# Altium schematic symbol library Male Header.SchLib: 63 symbols
Pins are listed as number, name and electrical type; pins without a type are passive.

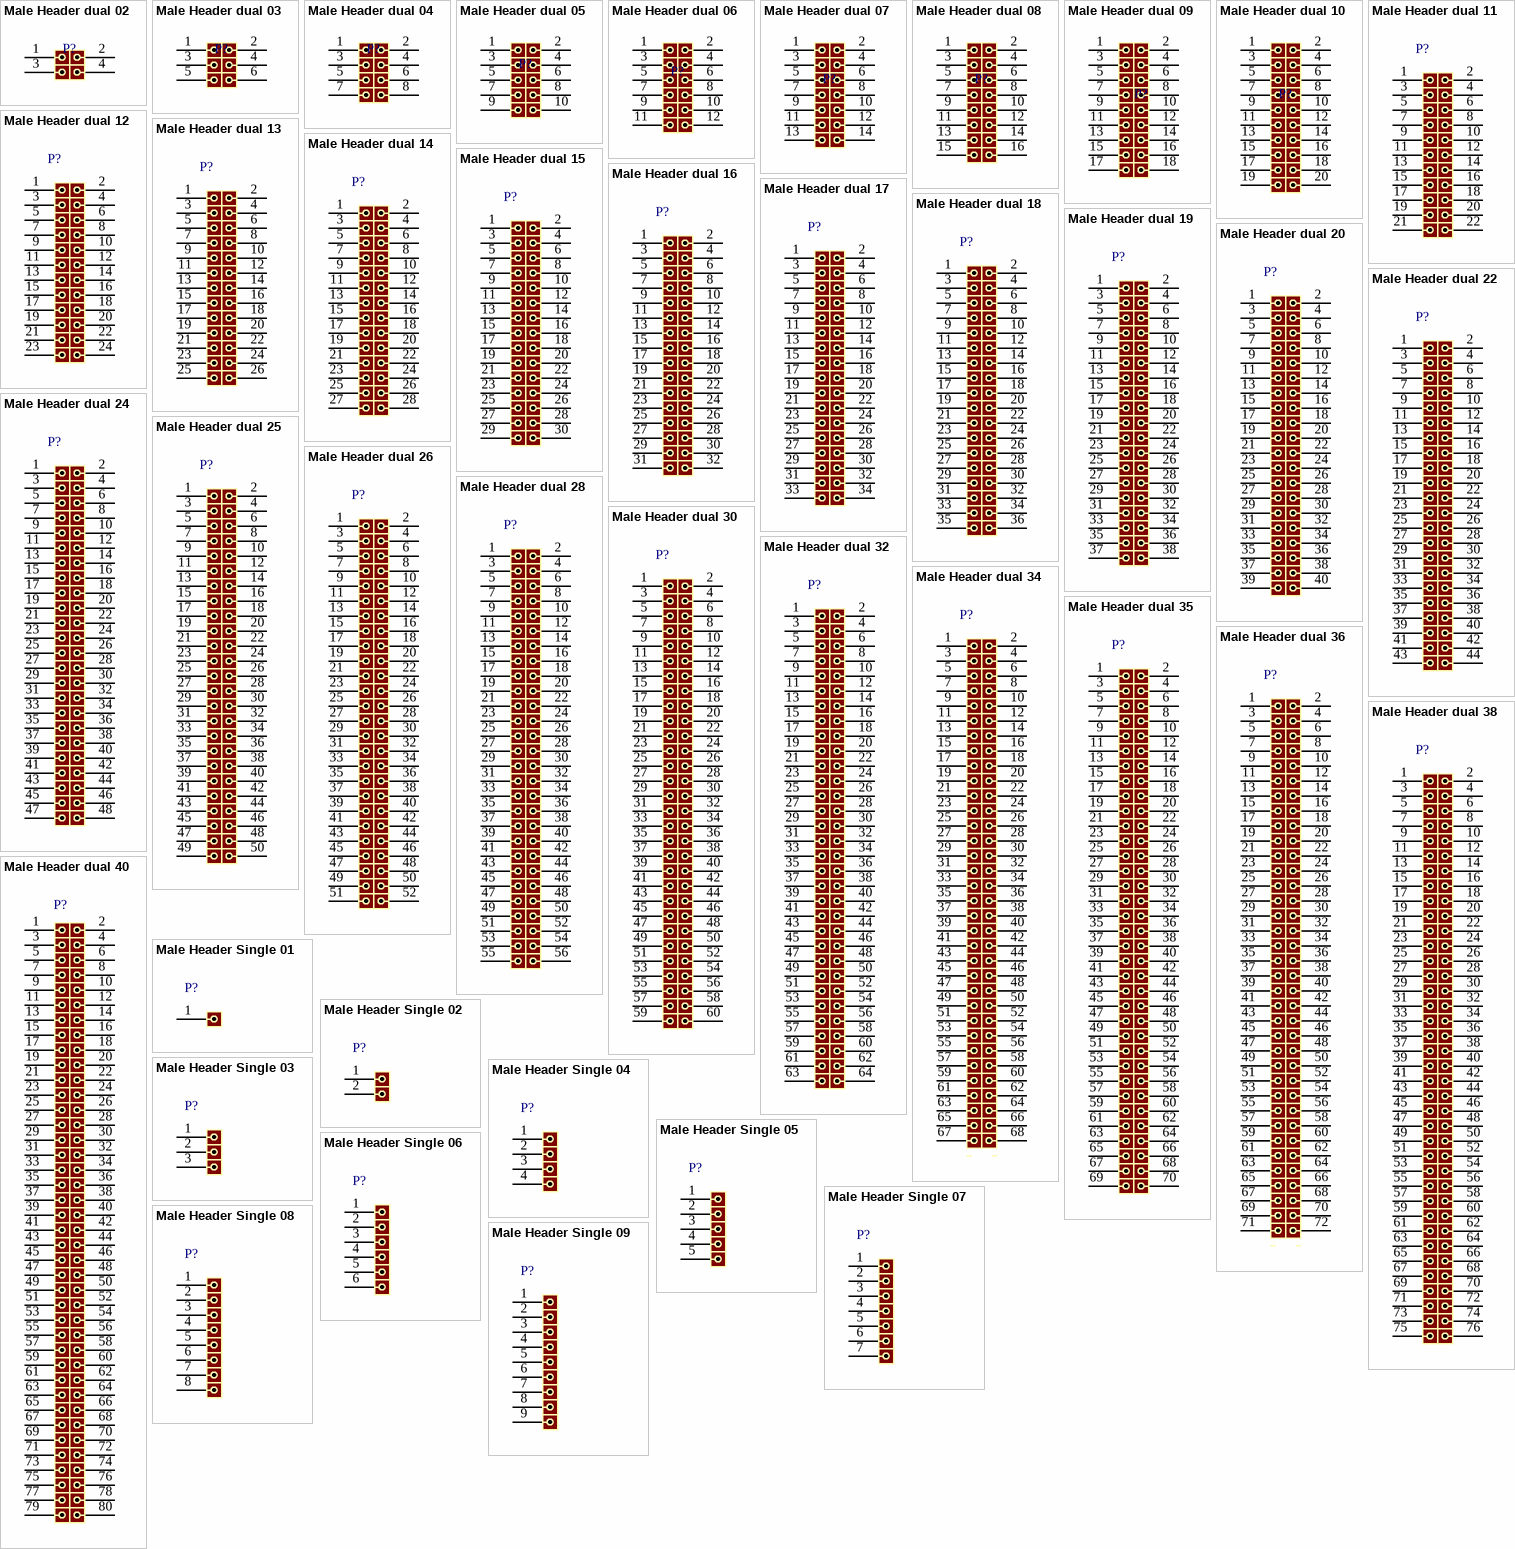
[diagram p0: symbols Male Header dual 02 to Male Header Single 09]

## Male Header dual 02
designator P?
Male, pitch: 2.54mm; DatasheetVersion: 2022
footprint MHDR2X02-254P (Male Header 2X02 with 2.54 mm Pitch)
footprint HDR 2X2 (Connector; Header; 2x2 Position)
pins: 1, 2, 3, 4
1 alternate drawing of the same symbol

## Male Header dual 03
designator P?
Male, pitch: 2.54mm; DatasheetVersion: 2022
footprint MHDR2X03-254P - E (Male Header 2X03 with 2.54 mm Pitch)
footprint MHDR2X03-254P (Male Header 2X03 with 2.54 mm Pitch)
footprint HDR 2X3 (Connector; Header; 2x3 Position)
pins: 1, 2, 3, 4, 5, 6
1 alternate drawing of the same symbol

## Male Header dual 04
designator P?
Male, pitch: 2.54mm; DatasheetVersion: 2022
footprint MHDR2X04-254P (Male Header 2X04 with 2.54 mm Pitch)
footprint HDR 2X4 (Connector; Header; 2x4 Position)
pins: 1, 2, 3, 4, 5, 6, 7, 8
1 alternate drawing of the same symbol

## Male Header dual 05
designator P?
Male, pitch: 2.54mm; DatasheetVersion: 2022
footprint MHDR2X05-254P (Male Header 2X05 with 2.54 mm Pitch)
footprint MHDR2X05-254P - E (Male Header 2X05 with 2.54 mm Pitch)
footprint HDR 2X5 (Connector; Header; 2x5 Position)
pins: 1, 2, 3, 4, 5, 6, 7, 8, 9, 10
1 alternate drawing of the same symbol

## Male Header dual 06
designator P?
Male, pitch: 2.54mm; DatasheetVersion: 2022
footprint MHDR2X06-254P (Male Header 2X06 with 2.54 mm Pitch)
footprint HDR 2X6 (Connector; Header; 2x6 Position)
pins: 1, 2, 3, 4, 5, 6, 7, 8, 9, 10, 11, 12
1 alternate drawing of the same symbol

## Male Header dual 07
designator P?
Male, pitch: 2.54mm; DatasheetVersion: 2022
footprint MHDR2X07-254P (Male Header 2X07 with 2.54 mm Pitch)
footprint HDR 2X7 (Connector; Header; 2x7 Position)
pins: 1, 2, 3, 4, 5, 6, 7, 8, 9, 10, 11, 12, 13, 14
1 alternate drawing of the same symbol

## Male Header dual 08
designator P?
Male, pitch: 2.54mm; DatasheetVersion: 2022
footprint MHDR2X08-254P (Male Header 2X08 with 2.54 mm Pitch)
footprint HDR 2X8 (Connector; Header; 2x8 Position)
pins: 1, 2, 3, 4, 5, 6, 7, 8, 9, 10, 11, 12, 13, 14, 15, 16
1 alternate drawing of the same symbol

## Male Header dual 09
designator P?
Male, pitch: 2.54mm; DatasheetVersion: 2022
footprint MHDR2X09-254P (Male Header 2X09 with 2.54 mm Pitch)
footprint HDR 2X9 (Connector; Header; 2x9 Position)
pins: 1, 2, 3, 4, 5, 6, 7, 8, 9, 10, 11, 12, 13, 14, 15, 16, 17, 18
1 alternate drawing of the same symbol

## Male Header dual 10
designator P?
Male, pitch: 2.54mm; DatasheetVersion: 2022
footprint MHDR2X10-254P (Male Header 2X10 with 2.54 mm Pitch)
footprint HDR 2X10 (Connector; Header; 2x10 Position)
pins: 1, 2, 3, 4, 5, 6, 7, 8, 9, 10, 11, 12, 13, 14, 15, 16, 17, 18, 19, 20
1 alternate drawing of the same symbol

## Male Header dual 11
designator P?
Male, pitch: 2.54mm; DatasheetVersion: 2022
footprint MHDR2X11-254P (Male Header 2X11 with 2.54 mm Pitch)
footprint HDR 2X11 (Connector; Header; 2x11 Position)
pins: 1, 2, 3, 4, 5, 6, 7, 8, 9, 10, 11, 12, 13, 14, 15, 16, 17, 18, 19, 20, 21, 22
1 alternate drawing of the same symbol

## Male Header dual 12
designator P?
Male, pitch: 2.54mm; DatasheetVersion: 2022
footprint MHDR2X12-254P (Male Header 2X12 with 2.54 mm Pitch)
footprint HDR 2X12 (Connector; Header; 2x12 Position)
pins: 1, 2, 3, 4, 5, 6, 7, 8, 9, 10, 11, 12, 13, 14, 15, 16, 17, 18, 19, 20, 21, 22, 23, 24
1 alternate drawing of the same symbol

## Male Header dual 13
designator P?
Male, pitch: 2.54mm; DatasheetVersion: 2022
footprint MHDR2X13-254P (Male Header 2X13 with 2.54 mm Pitch)
footprint HDR 2X13 (Connector; Header; 2x13 Position)
pins: 1, 2, 3, 4, 5, 6, 7, 8, 9, 10, 11, 12, 13, 14, 15, 16, 17, 18, 19, 20, 21, 22, 23, 24, 25, 26
1 alternate drawing of the same symbol

## Male Header dual 14
designator P?
Male, pitch: 2.54mm; DatasheetVersion: 2022
footprint MHDR2X14-254P (Male Header 2X14 with 2.54 mm Pitch)
footprint HDR 2X14 (Connector; Header; 2x14 Position)
pins: 1, 2, 3, 4, 5, 6, 7, 8, 9, 10, 11, 12, 13, 14, 15, 16, 17, 18, 19, 20, 21, 22, 23, 24, 25, 26, 27, 28
1 alternate drawing of the same symbol

## Male Header dual 15
designator P?
Male, pitch: 2.54mm; DatasheetVersion: 2022
footprint MHDR2X15-254P (Male Header 2X15 with 2.54 mm Pitch)
footprint HDR 2X15 (Connector; Header; 2x15 Position)
pins: 1, 2, 3, 4, 5, 6, 7, 8, 9, 10, 11, 12, 13, 14, 15, 16, 17, 18, 19, 20, 21, 22, 23, 24, 25, 26, 27, 28, 29, 30
1 alternate drawing of the same symbol

## Male Header dual 16
designator P?
Male, pitch: 2.54mm; DatasheetVersion: 2022
footprint MHDR2X16-254P - E (Male Header 2X16 with 2.54 mm Pitch)
footprint MHDR2X16-254P (Male Header 2X16 with 2.54 mm Pitch)
footprint HDR 2X16 (Connector; Header; 2x16 Position)
pins: 1, 2, 3, 4, 5, 6, 7, 8, 9, 10, 11, 12, 13, 14, 15, 16, 17, 18, 19, 20, 21, 22, 23, 24, 25, 26, 27, 28, 29, 30, 31, 32
1 alternate drawing of the same symbol

## Male Header dual 17
designator P?
Male, pitch: 2.54mm; DatasheetVersion: 2022
footprint MHDR2X17-254P (Male Header 2X17 with 2.54 mm Pitch)
footprint HDR 2X17 (Connector; Header; 2x17 Position)
pins: 1, 2, 3, 4, 5, 6, 7, 8, 9, 10, 11, 12, 13, 14, 15, 16, 17, 18, 19, 20, 21, 22, 23, 24, 25, 26, 27, 28, 29, 30, 31, 32, 33, 34
1 alternate drawing of the same symbol

## Male Header dual 18
designator P?
Male, pitch: 2.54mm; DatasheetVersion: 2022
footprint MHDR2X18-254P (Male Header 2X18 with 2.54 mm Pitch)
footprint HDR 2X18 (Connector; Header; 2x18 Position)
pins: 1, 2, 3, 4, 5, 6, 7, 8, 9, 10, 11, 12, 13, 14, 15, 16, 17, 18, 19, 20, 21, 22, 23, 24, 25, 26, 27, 28, 29, 30, 31, 32, 33, 34, 35, 36
1 alternate drawing of the same symbol

## Male Header dual 19
designator P?
Male, pitch: 2.54mm; DatasheetVersion: 2022
footprint MHDR2X19-254P (Male Header 2X19 with 2.54 mm Pitch)
footprint HDR 2X19 (Connector; Header; 2x19 Position)
pins: 1, 2, 3, 4, 5, 6, 7, 8, 9, 10, 11, 12, 13, 14, 15, 16, 17, 18, 19, 20, 21, 22, 23, 24, 25, 26, 27, 28, 29, 30, 31, 32, 33, 34, 35, 36, 37, 38
1 alternate drawing of the same symbol

## Male Header dual 20
designator P?
Male, pitch: 2.54mm; DatasheetVersion: 2022
footprint MHDR2X20-254P (Male Header 2X20 with 2.54 mm Pitch)
footprint HDR 2X20 (Connector; Header; 2x20 Position)
pins: 1, 2, 3, 4, 5, 6, 7, 8, 9, 10, 11, 12, 13, 14, 15, 16, 17, 18, 19, 20, 21, 22, 23, 24, 25, 26, 27, 28, 29, 30, 31, 32, 33, 34, 35, 36, 37, 38, 39, 40
1 alternate drawing of the same symbol

## Male Header dual 22
designator P?
Male, pitch: 2.54mm; DatasheetVersion: 2022
footprint MHDR2X22-254P (Male Header 2X22 with 2.54 mm Pitch)
footprint HDR 2X22 (Connector; Header; 2x22 Position)
pins: 1, 2, 3, 4, 5, 6, 7, 8, 9, 10, 11, 12, 13, 14, 15, 16, 17, 18, 19, 20, 21, 22, 23, 24, 25, 26, 27, 28, 29, 30, 31, 32, 33, 34, 35, 36, 37, 38, 39, 40, 41, 42, 43, 44
1 alternate drawing of the same symbol

## Male Header dual 24
designator P?
Male, pitch: 2.54mm; DatasheetVersion: 2022
footprint MHDR2X24-254P (Male Header 2X24 with 2.54 mm Pitch)
footprint HDR 2X24 (Connector; Header; 2x24 Position)
pins: 1, 2, 3, 4, 5, 6, 7, 8, 9, 10, 11, 12, 13, 14, 15, 16, 17, 18, 19, 20, 21, 22, 23, 24, 25, 26, 27, 28, 29, 30, 31, 32, 33, 34, 35, 36, 37, 38, 39, 40, 41, 42, 43, 44, 45, 46, 47, 48
1 alternate drawing of the same symbol

## Male Header dual 25
designator P?
Male, pitch: 2.54mm; DatasheetVersion: 2022
footprint MHDR2X25-254P (Male Header 2X25 with 2.54 mm Pitch)
footprint MHDR2X25-254P - E (Male Header 2X25 with 2.54 mm Pitch)
footprint HDR 2X25 (Connector; Header; 2x25 Position)
pins: 1, 2, 3, 4, 5, 6, 7, 8, 9, 10, 11, 12, 13, 14, 15, 16, 17, 18, 19, 20, 21, 22, 23, 24, 25, 26, 27, 28, 29, 30, 31, 32, 33, 34, 35, 36, 37, 38, 39, 40, 41, 42, 43, 44, 45, 46, 47, 48, 49, 50
1 alternate drawing of the same symbol

## Male Header dual 26
designator P?
Male, pitch: 2.54mm; DatasheetVersion: 2022
footprint MHDR2X26-254P (Male Header 2X26 with 2.54 mm Pitch)
footprint HDR 2X26 (Connector; Header; 2x26 Position)
pins: 1, 2, 3, 4, 5, 6, 7, 8, 9, 10, 11, 12, 13, 14, 15, 16, 17, 18, 19, 20, 21, 22, 23, 24, 25, 26, 27, 28, 29, 30, 31, 32, 33, 34, 35, 36, 37, 38, 39, 40, 41, 42, 43, 44, 45, 46, 47, 48, 49, 50, 51, 52
1 alternate drawing of the same symbol

## Male Header dual 28
designator P?
Male, pitch: 2.54mm; DatasheetVersion: 2022
footprint MHDR2X28-254P (Male Header 2X28 with 2.54 mm Pitch)
footprint HDR 2X28 (Connector; Header; 2x28 Position)
pins: 1, 2, 3, 4, 5, 6, 7, 8, 9, 10, 11, 12, 13, 14, 15, 16, 17, 18, 19, 20, 21, 22, 23, 24, 25, 26, 27, 28, 29, 30, 31, 32, 33, 34, 35, 36, 37, 38, 39, 40, 41, 42, 43, 44, 45, 46, 47, 48, 49, 50, 51, 52, 53, 54, 55, 56
1 alternate drawing of the same symbol

## Male Header dual 30
designator P?
Male, pitch: 2.54mm; DatasheetVersion: 2022
footprint MHDR2X30-254P (Male Header 2X30 with 2.54 mm Pitch)
footprint HDR 2X30 (Connector; Header; 2x30 Position)
pins: 1, 2, 3, 4, 5, 6, 7, 8, 9, 10, 11, 12, 13, 14, 15, 16, 17, 18, 19, 20, 21, 22, 23, 24, 25, 26, 27, 28, 29, 30, 31, 32, 33, 34, 35, 36, 37, 38, 39, 40, 41, 42, 43, 44, 45, 46, 47, 48, 49, 50, 51, 52, 53, 54, 55, 56, 57, 58, 59, 60
1 alternate drawing of the same symbol

## Male Header dual 32
designator P?
Male, pitch: 2.54mm; DatasheetVersion: 2022
footprint MHDR2X32-254P (Male Header 2X32 with 2.54 mm Pitch)
footprint HDR 2X32 (Connector; Header; 2x32 Position)
pins: 1, 2, 3, 4, 5, 6, 7, 8, 9, 10, 11, 12, 13, 14, 15, 16, 17, 18, 19, 20, 21, 22, 23, 24, 25, 26, 27, 28, 29, 30, 31, 32, 33, 34, 35, 36, 37, 38, 39, 40, 41, 42, 43, 44, 45, 46, 47, 48, 49, 50, 51, 52, 53, 54, 55, 56, 57, 58, 59, 60, 61, 62, 63, 64
1 alternate drawing of the same symbol

## Male Header dual 34
designator P?
Male, pitch: 2.54mm; DatasheetVersion: 2022
footprint MHDR2X34-254P (Male Header 2X34 with 2.54 mm Pitch)
footprint HDR 2X34 (Connector; Header; 2x34 Position)
pins: 1, 2, 3, 4, 5, 6, 7, 8, 9, 10, 11, 12, 13, 14, 15, 16, 17, 18, 19, 20, 21, 22, 23, 24, 25, 26, 27, 28, 29, 30, 31, 32, 33, 34, 35, 36, 37, 38, 39, 40, 41, 42, 43, 44, 45, 46, 47, 48, 49, 50, 51, 52, 53, 54, 55, 56, 57, 58, 59, 60, 61, 62, 63, 64, 65, 66, 67, 68
1 alternate drawing of the same symbol

## Male Header dual 35
designator P?
Male, pitch: 2.54mm; DatasheetVersion: 2022
footprint MHDR2X35-254P (Male Header 2X35 with 2.54 mm Pitch)
footprint HDR 2X35 (Connector; Header; 2x35 Position)
pins: 1, 2, 3, 4, 5, 6, 7, 8, 9, 10, 11, 12, 13, 14, 15, 16, 17, 18, 19, 20, 21, 22, 23, 24, 25, 26, 27, 28, 29, 30, 31, 32, 33, 34, 35, 36, 37, 38, 39, 40, 41, 42, 43, 44, 45, 46, 47, 48, 49, 50, 51, 52, 53, 54, 55, 56, 57, 58, 59, 60, 61, 62, 63, 64, 65, 66, 67, 68, 69, 70
1 alternate drawing of the same symbol

## Male Header dual 36
designator P?
Male, pitch: 2.54mm; DatasheetVersion: 2022
footprint MHDR2X36-254P (Male Header 2X36 with 2.54 mm Pitch)
footprint HDR 2X36 (Connector; Header; 2x36 Position)
pins: 1, 2, 3, 4, 5, 6, 7, 8, 9, 10, 11, 12, 13, 14, 15, 16, 17, 18, 19, 20, 21, 22, 23, 24, 25, 26, 27, 28, 29, 30, 31, 32, 33, 34, 35, 36, 37, 38, 39, 40, 41, 42, 43, 44, 45, 46, 47, 48, 49, 50, 51, 52, 53, 54, 55, 56, 57, 58, 59, 60, 61, 62, 63, 64, 65, 66, 67, 68, 69, 70, 71, 72
1 alternate drawing of the same symbol

## Male Header dual 38
designator P?
Male, pitch: 2.54mm; DatasheetVersion: 2022
footprint MHDR2X38-254P (Male Header 2X38 with 2.54 mm Pitch)
footprint HDR 2X38 (Connector; Header; 2x38 Position)
pins: 1, 2, 3, 4, 5, 6, 7, 8, 9, 10, 11, 12, 13, 14, 15, 16, 17, 18, 19, 20, 21, 22, 23, 24, 25, 26, 27, 28, 29, 30, 31, 32, 33, 34, 35, 36, 37, 38, 39, 40, 41, 42, 43, 44, 45, 46, 47, 48, 49, 50, 51, 52, 53, 54, 55, 56, 57, 58, 59, 60, 61, 62, 63, 64, 65, 66, 67, 68, 69, 70, 71, 72, 73, 74, 75, 76
1 alternate drawing of the same symbol

## Male Header dual 40
designator P?
Male, pitch: 2.54mm; DatasheetVersion: 2022
footprint MHDR2X40-254P (Male Header 2X40 with 2.54 mm Pitch)
footprint MHDR2X40-254P - E (Male Header 2X40 with 2.54 mm Pitch)
footprint HDR 2X40 (Connector; Header; 2x40 Position)
pins: 1, 2, 3, 4, 5, 6, 7, 8, 9, 10, 11, 12, 13, 14, 15, 16, 17, 18, 19, 20, 21, 22, 23, 24, 25, 26, 27, 28, 29, 30, 31, 32, 33, 34, 35, 36, 37, 38, 39, 40, 41, 42, 43, 44, 45, 46, 47, 48, 49, 50, 51, 52, 53, 54, 55, 56, 57, 58, 59, 60, 61, 62, 63, 64, 65, 66, 67, 68, 69, 70, 71, 72, 73, 74, 75, 76, 77, 78, 79, 80
1 alternate drawing of the same symbol

## Male Header Single 01
designator P?
Male, pitch: 2.54mm; DatasheetVersion: 2022
footprint HDR 1X1 (Generic Antenna; 1 Lead)
pins: 1
1 alternate drawing of the same symbol

## Male Header Single 02
designator P?
Male, pitch: 2.54mm; DatasheetVersion: 2022
footprint MHDR1X02-254P (Male Header 1X02 with 2.54 mm Pitch)
footprint HDR 1X2 (Connector; Header; 2 Position)
pins: 1, 2
1 alternate drawing of the same symbol

## Male Header Single 03
designator P?
Male, pitch: 2.54mm; DatasheetVersion: 2022
footprint MHDR1X03-254P (Male Header 1X03 with 2.54 mm Pitch)
footprint HDR 1X3 (Connector; Header; 3 Position)
pins: 1, 2, 3
1 alternate drawing of the same symbol

## Male Header Single 04
designator P?
Male, pitch: 2.54mm; DatasheetVersion: 2022
footprint MHDR1X04-254P (Male Header 1X04 with 2.54 mm Pitch)
footprint HDR 1X4 (Connector; Header; 4 Position)
pins: 1, 2, 3, 4
1 alternate drawing of the same symbol

## Male Header Single 05
designator P?
Male, pitch: 2.54mm; DatasheetVersion: 2022
footprint MHDR1X05-254P (Male Header 1X05 with 2.54 mm Pitch)
footprint HDR 1X5 (Connector; Header; 5 Position)
pins: 1, 2, 3, 4, 5
1 alternate drawing of the same symbol

## Male Header Single 06
designator P?
Male, pitch: 2.54mm; DatasheetVersion: 2022
footprint MHDR1X06-254P (Male Header 1X06 with 2.54 mm Pitch)
footprint HDR 1X6 (Connector; Header; 6 Position)
pins: 1, 2, 3, 4, 5, 6
1 alternate drawing of the same symbol

## Male Header Single 07
designator P?
Male, pitch: 2.54mm; DatasheetVersion: 2022
footprint MHDR1X07-254P (Male Header 1X07 with 2.54 mm Pitch)
footprint HDR 1X7 (Connector; Header; 7 Position)
pins: 1, 2, 3, 4, 5, 6, 7
1 alternate drawing of the same symbol

## Male Header Single 08
designator P?
Male, pitch: 2.54mm; DatasheetVersion: 2022
footprint MHDR1X08-254P (Male Header 1X08 with 2.54 mm Pitch)
footprint HDR 1X8 (Connector; Header; 8 Position)
pins: 1, 2, 3, 4, 5, 6, 7, 8
1 alternate drawing of the same symbol

## Male Header Single 09
designator P?
Male, pitch: 2.54mm; DatasheetVersion: 2022
footprint MHDR1X09-254P (Male Header 1X09 with 2.54 mm Pitch)
footprint HDR 1X9 (Connector; Header; 9 Position)
pins: 1, 2, 3, 4, 5, 6, 7, 8, 9
1 alternate drawing of the same symbol

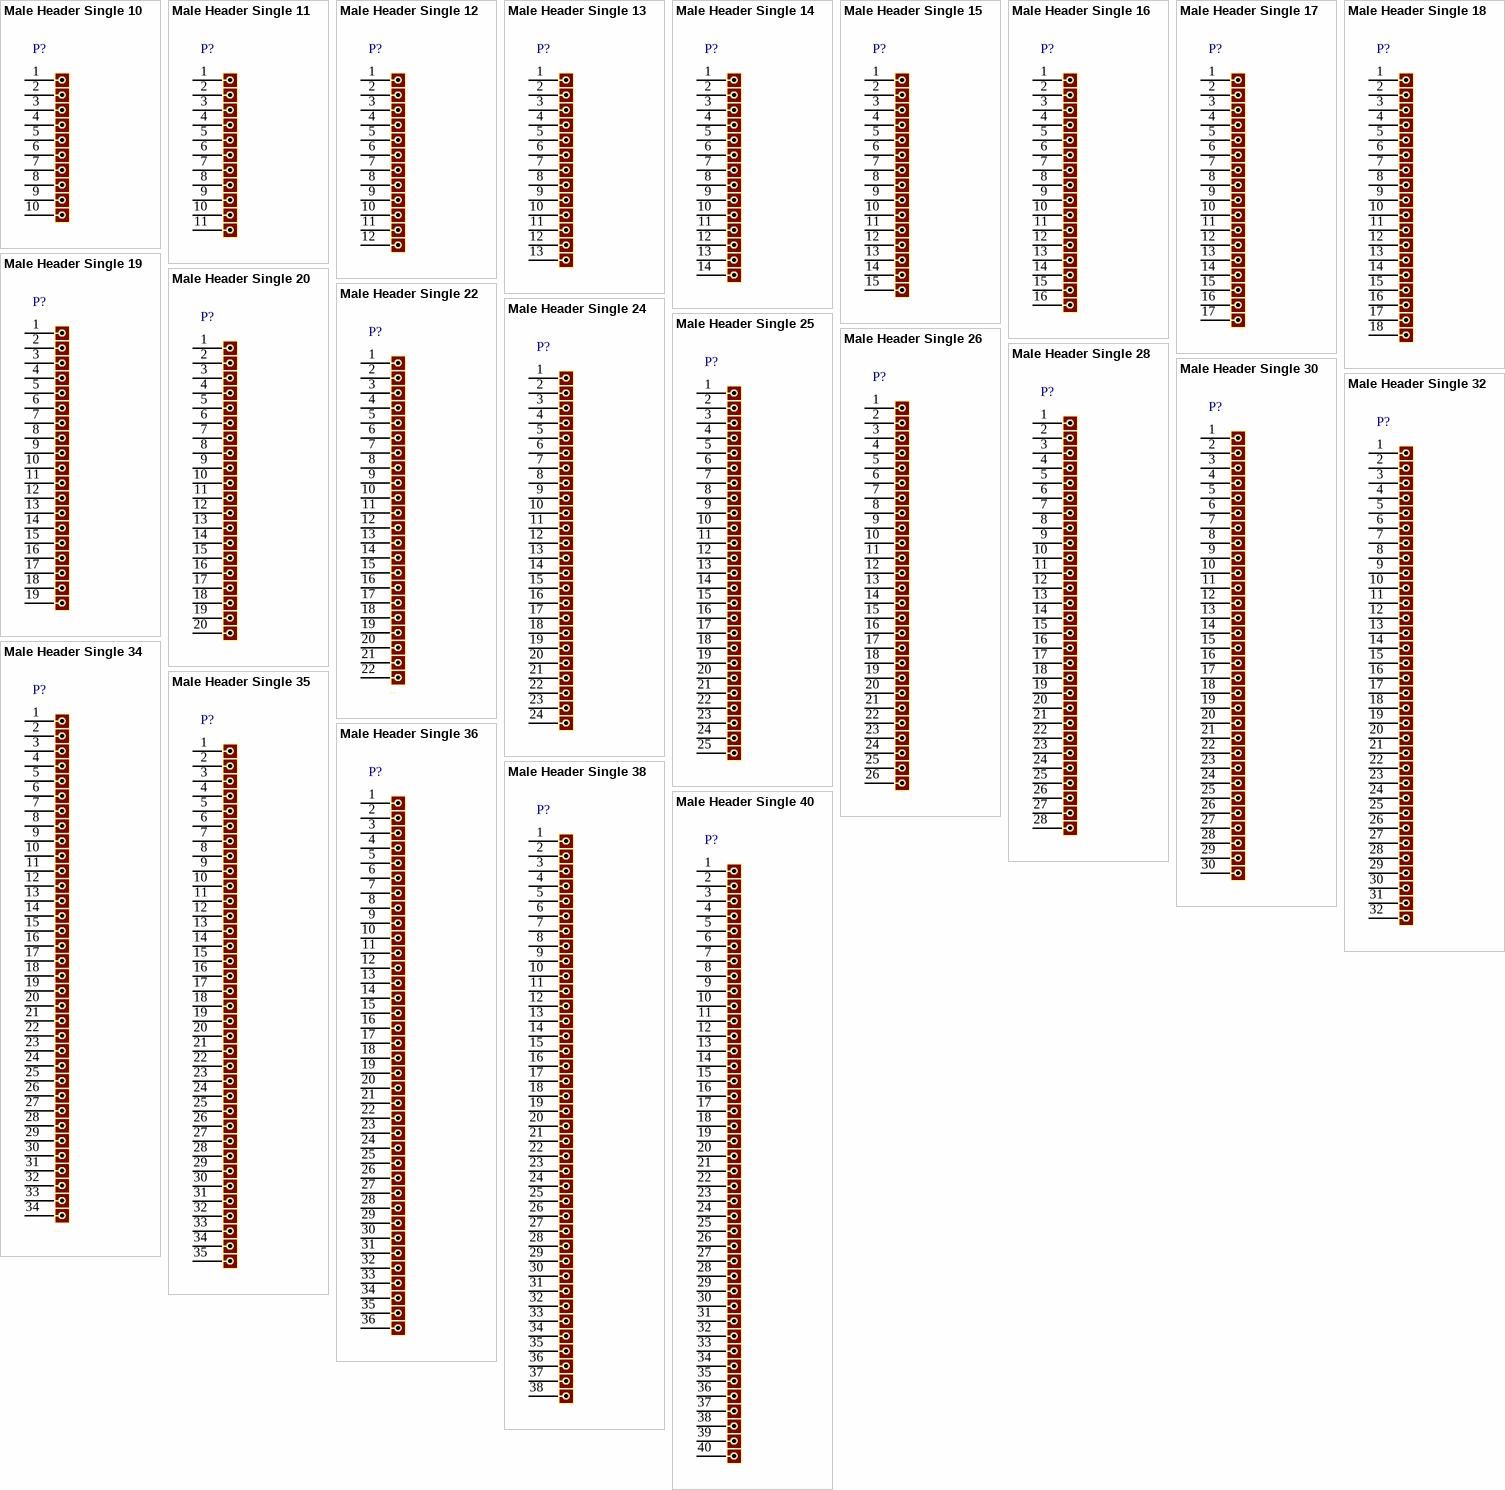
[diagram p1: symbols Male Header Single 10 to Male Header Single 40]

## Male Header Single 10
designator P?
Male, pitch: 2.54mm; DatasheetVersion: 2022
footprint MHDR1X10-254P - E (Male Header 1X10 with 2.54 mm Pitch)
footprint MHDR1X10-254P (Male Header 1X10 with 2.54 mm Pitch)
footprint HDR 1X10 (Connector; Header; 10 Position)
pins: 1, 2, 3, 4, 5, 6, 7, 8, 9, 10
1 alternate drawing of the same symbol

## Male Header Single 11
designator P?
Male, pitch: 2.54mm; DatasheetVersion: 2022
footprint MHDR1X11-254P (Male Header 1X11 with 2.54 mm Pitch)
footprint HDR 1X11 (Connector; Header; 11 Position)
pins: 1, 2, 3, 4, 5, 6, 7, 8, 9, 10, 11
1 alternate drawing of the same symbol

## Male Header Single 12
designator P?
Male, pitch: 2.54mm; DatasheetVersion: 2022
footprint MHDR1X12-254P (Male Header 1X12 with 2.54 mm Pitch)
footprint HDR 1X12 (Connector; Header; 12 Position)
pins: 1, 2, 3, 4, 5, 6, 7, 8, 9, 10, 11, 12
1 alternate drawing of the same symbol

## Male Header Single 13
designator P?
Male, pitch: 2.54mm; DatasheetVersion: 2022
footprint MHDR1X13-254P (Male Header 1X13 with 2.54 mm Pitch)
footprint HDR 1X13 (Connector; Header; 13 Position)
pins: 1, 2, 3, 4, 5, 6, 7, 8, 9, 10, 11, 12, 13
1 alternate drawing of the same symbol

## Male Header Single 14
designator P?
Male, pitch: 2.54mm; DatasheetVersion: 2022
footprint MHDR1X14-254P (Male Header 1X14 with 2.54 mm Pitch)
footprint HDR 1X14 (Connector; Header; 14 Position)
pins: 1, 2, 3, 4, 5, 6, 7, 8, 9, 10, 11, 12, 13, 14
1 alternate drawing of the same symbol

## Male Header Single 15
designator P?
Male, pitch: 2.54mm; DatasheetVersion: 2022
footprint MHDR1X15-254P (Male Header 1X15 with 2.54 mm Pitch)
footprint HDR 1X15 (Connector; Header; 15 Position)
pins: 1, 2, 3, 4, 5, 6, 7, 8, 9, 10, 11, 12, 13, 14, 15
1 alternate drawing of the same symbol

## Male Header Single 16
designator P?
Male, pitch: 2.54mm; DatasheetVersion: 2022
footprint MHDR1X16-254P (Male Header 1X16 with 2.54 mm Pitch)
footprint HDR 1X16 (Connector; Header; 16 Position)
pins: 1, 2, 3, 4, 5, 6, 7, 8, 9, 10, 11, 12, 13, 14, 15, 16
1 alternate drawing of the same symbol

## Male Header Single 17
designator P?
Male, pitch: 2.54mm; DatasheetVersion: 2022
footprint MHDR1X17-254P (Male Header 1X17 with 2.54 mm Pitch)
footprint HDR 1X17 (Connector; Header; 17 Position)
pins: 1, 2, 3, 4, 5, 6, 7, 8, 9, 10, 11, 12, 13, 14, 15, 16, 17
1 alternate drawing of the same symbol

## Male Header Single 18
designator P?
Male, pitch: 2.54mm; DatasheetVersion: 2022
footprint MHDR1X18-254P (Male Header 1X18 with 2.54 mm Pitch)
footprint HDR 1X18 (Connector; Header; 18 Position)
pins: 1, 2, 3, 4, 5, 6, 7, 8, 9, 10, 11, 12, 13, 14, 15, 16, 17, 18
1 alternate drawing of the same symbol

## Male Header Single 19
designator P?
Male, pitch: 2.54mm; DatasheetVersion: 2022
footprint MHDR1X19-254P (Male Header 1X19 with 2.54 mm Pitch)
footprint HDR 1X19 (Connector; Header; 19 Position)
pins: 1, 2, 3, 4, 5, 6, 7, 8, 9, 10, 11, 12, 13, 14, 15, 16, 17, 18, 19
1 alternate drawing of the same symbol

## Male Header Single 20
designator P?
Male, pitch: 2.54mm; DatasheetVersion: 2022
footprint MHDR1X20-254P (Male Header 1X20 with 2.54 mm Pitch)
footprint HDR 1X20 (Connector; Header; 20 Position)
pins: 1, 2, 3, 4, 5, 6, 7, 8, 9, 10, 11, 12, 13, 14, 15, 16, 17, 18, 19, 20
1 alternate drawing of the same symbol

## Male Header Single 22
designator P?
Male, pitch: 2.54mm; DatasheetVersion: 2022
footprint MHDR1X22-254P (Male Header 1X22 with 2.54 mm Pitch)
footprint HDR 1X22 (Connector; Header; 22 Position)
pins: 1, 2, 3, 4, 5, 6, 7, 8, 9, 10, 11, 12, 13, 14, 15, 16, 17, 18, 19, 20, 21, 22
1 alternate drawing of the same symbol

## Male Header Single 24
designator P?
Male, pitch: 2.54mm; DatasheetVersion: 2022
footprint MHDR1X24-254P (Male Header 1X24 with 2.54 mm Pitch)
footprint HDR 1X24 (Connector; Header; 24 Position)
pins: 1, 2, 3, 4, 5, 6, 7, 8, 9, 10, 11, 12, 13, 14, 15, 16, 17, 18, 19, 20, 21, 22, 23, 24
1 alternate drawing of the same symbol

## Male Header Single 25
designator P?
Male, pitch: 2.54mm; DatasheetVersion: 2022
footprint MHDR1X25-254P (Male Header 1X25 with 2.54 mm Pitch)
footprint HDR 1X25 (Connector; Header; 25 Position)
pins: 1, 2, 3, 4, 5, 6, 7, 8, 9, 10, 11, 12, 13, 14, 15, 16, 17, 18, 19, 20, 21, 22, 23, 24, 25
1 alternate drawing of the same symbol

## Male Header Single 26
designator P?
Male, pitch: 2.54mm; DatasheetVersion: 2022
footprint MHDR1X26-254P (Male Header 1X26 with 2.54 mm Pitch)
footprint HDR 1X26 (Connector; Header; 26 Position)
pins: 1, 2, 3, 4, 5, 6, 7, 8, 9, 10, 11, 12, 13, 14, 15, 16, 17, 18, 19, 20, 21, 22, 23, 24, 25, 26
1 alternate drawing of the same symbol

## Male Header Single 28
designator P?
Male, pitch: 2.54mm; DatasheetVersion: 2022
footprint MHDR1X28-254P (Male Header 1X28 with 2.54 mm Pitch)
footprint HDR 1X28 (Connector; Header; 28 Position)
pins: 1, 2, 3, 4, 5, 6, 7, 8, 9, 10, 11, 12, 13, 14, 15, 16, 17, 18, 19, 20, 21, 22, 23, 24, 25, 26, 27, 28
1 alternate drawing of the same symbol

## Male Header Single 30
designator P?
Male, pitch: 2.54mm; DatasheetVersion: 2022
footprint MHDR1X30-254P (Male Header 1X30 with 2.54 mm Pitch)
footprint HDR 1X30 (Connector; Header; 30 Position)
pins: 1, 2, 3, 4, 5, 6, 7, 8, 9, 10, 11, 12, 13, 14, 15, 16, 17, 18, 19, 20, 21, 22, 23, 24, 25, 26, 27, 28, 29, 30
1 alternate drawing of the same symbol

## Male Header Single 32
designator P?
Male, pitch: 2.54mm; DatasheetVersion: 2022
footprint MHDR1X32-254P (Male Header 1X32 with 2.54 mm Pitch)
footprint HDR 1X32 (Connector; Header; 32 Position)
pins: 1, 2, 3, 4, 5, 6, 7, 8, 9, 10, 11, 12, 13, 14, 15, 16, 17, 18, 19, 20, 21, 22, 23, 24, 25, 26, 27, 28, 29, 30, 31, 32
1 alternate drawing of the same symbol

## Male Header Single 34
designator P?
Male, pitch: 2.54mm; DatasheetVersion: 2022
footprint MHDR1X34-254P (Male Header 1X34 with 2.54 mm Pitch)
footprint HDR 1X34 (Connector; Header; 34 Position)
pins: 1, 2, 3, 4, 5, 6, 7, 8, 9, 10, 11, 12, 13, 14, 15, 16, 17, 18, 19, 20, 21, 22, 23, 24, 25, 26, 27, 28, 29, 30, 31, 32, 33, 34
1 alternate drawing of the same symbol

## Male Header Single 35
designator P?
Male, pitch: 2.54mm; DatasheetVersion: 2022
footprint MHDR1X35-254P (Male Header 1X35 with 2.54 mm Pitch)
footprint HDR 1X35 (Connector; Header; 35 Position)
pins: 1, 2, 3, 4, 5, 6, 7, 8, 9, 10, 11, 12, 13, 14, 15, 16, 17, 18, 19, 20, 21, 22, 23, 24, 25, 26, 27, 28, 29, 30, 31, 32, 33, 34, 35
1 alternate drawing of the same symbol

## Male Header Single 36
designator P?
Male, pitch: 2.54mm; DatasheetVersion: 2022
footprint MHDR1X36-254P (Male Header 1X36 with 2.54 mm Pitch)
footprint HDR 1X36 (Connector; Header; 36 Position)
pins: 1, 2, 3, 4, 5, 6, 7, 8, 9, 10, 11, 12, 13, 14, 15, 16, 17, 18, 19, 20, 21, 22, 23, 24, 25, 26, 27, 28, 29, 30, 31, 32, 33, 34, 35, 36
1 alternate drawing of the same symbol

## Male Header Single 38
designator P?
Male, pitch: 2.54mm; DatasheetVersion: 2022
footprint MHDR1X38-254P (Male Header 1X38 with 2.54 mm Pitch)
footprint HDR 1X38 (Connector; Header; 38 Position)
pins: 1, 2, 3, 4, 5, 6, 7, 8, 9, 10, 11, 12, 13, 14, 15, 16, 17, 18, 19, 20, 21, 22, 23, 24, 25, 26, 27, 28, 29, 30, 31, 32, 33, 34, 35, 36, 37, 38
1 alternate drawing of the same symbol

## Male Header Single 40
designator P?
Male, pitch: 2.54mm; DatasheetVersion: 2022
footprint MHDR1X40-254P (Male Header 1X40 with 2.54 mm Pitch)
footprint HDR 1X40 (Connector; Header; 40 Position)
pins: 1, 2, 3, 4, 5, 6, 7, 8, 9, 10, 11, 12, 13, 14, 15, 16, 17, 18, 19, 20, 21, 22, 23, 24, 25, 26, 27, 28, 29, 30, 31, 32, 33, 34, 35, 36, 37, 38, 39, 40
1 alternate drawing of the same symbol